# Altium integrated library Documents.IntLib: 9 symbols
Pins are listed as number, name and electrical type; pins without a type are passive.

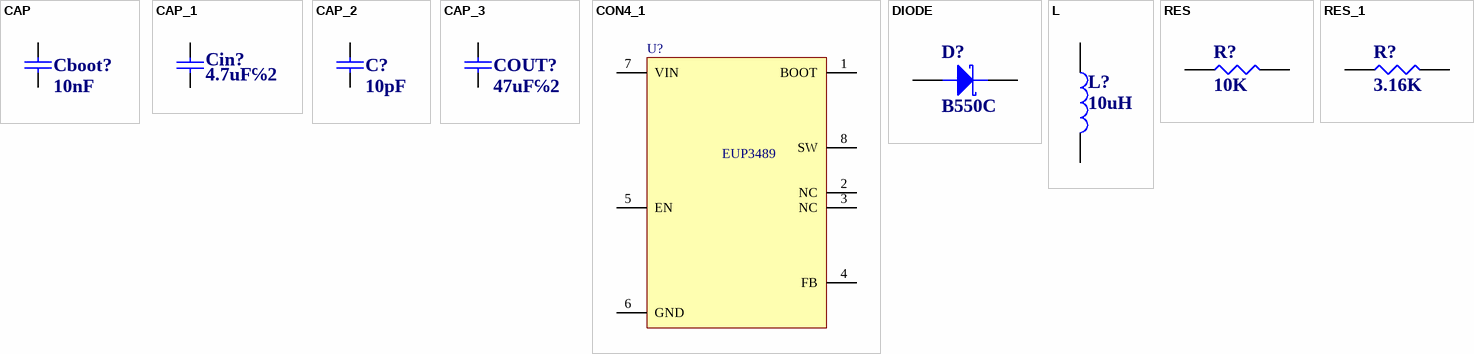
[diagram p0: symbols CAP to RES_1]

## CAP
designator Cboot?, comment 10nF
Capacitor
footprint 0805
footprint 0603
footprint 1210
footprint 0805-1
pins: 1, 2

## CAP_1
designator Cin?, comment 4.7uF℅2
Capacitor
footprint 0805
footprint 0603
footprint 1210
footprint 0805-1
pins: 1, 2

## CAP_2
designator C?, comment 10pF
Capacitor
footprint 0805
footprint 0603
footprint 1210
footprint 0805-1
pins: 1, 2

## CAP_3
designator COUT?, comment 47uF℅2
Capacitor
footprint 0805
footprint 0603
footprint 1210
footprint 0805-1
pins: 1, 2

## CON4_1
designator U?, comment EUP3489
Connector
footprint MOS SOP8
pins: 1 BOOT, 2 NC, 3 NC, 4 FB, 5 EN, 6 GND, 7 VIN, 8 SW

## DIODE
designator D?, comment B550C
footprint DIODE
footprint LED
footprint DIODE-1
pins: 1 A, 2 K

## L
designator L?, comment 10uH
footprint L
footprint L-1
footprint L-2
footprint L-3
pins: 1, 2

## RES
designator R?, comment 10K
footprint 0805
footprint 0603
footprint 1210
footprint 0805-1
pins: 1, 2

## RES_1
designator R?, comment 3.16K
footprint 0805
footprint 0603
footprint 1210
footprint 0805-1
pins: 1, 2